# EAGLE library part TRANS_ULN2003AD (library X16_Backplane)
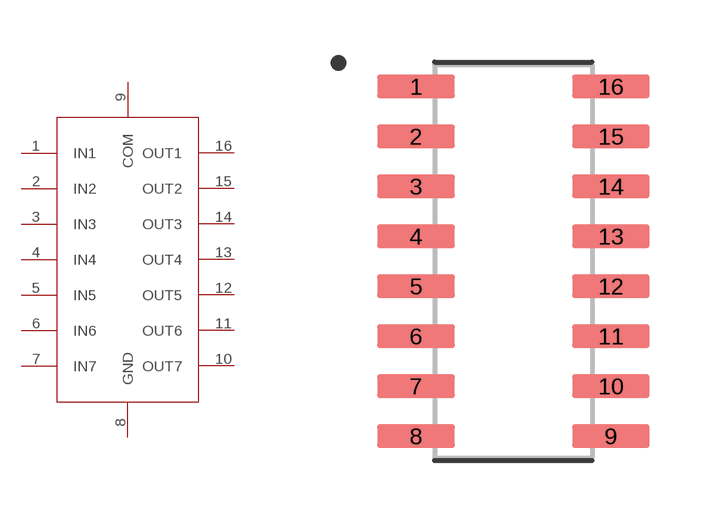
[diagram p5: symbol with the pads of 16-SOIC; footprint 16-SOIC]

Designator prefix U

## TRANS_ULN2003AD (A1_MIN: 0.25; A_MAX: 1.75; A_MIN: 1.75; A_NOM: 1.75; B_MAX: 0.51; B_MIN: 0.33; B_NOM: 0.42; D2_MAX: 0.0; D_MAX: 10.0; D_MIN: 9.8; D_NOM: 9.9; E1_MAX: 4.0; E1_MIN: 3.8; E1_NOM: 3.9; E2_MAX: 0.0; ENOM: 1.27; E_MAX: 6.2; E_MIN: 5.8; E_NOM: 6.0; L_MAX: 1.27; L_MIN: 0.38; L_NOM: 0.825; MANUFACTURER: Diodes Inc.; PIN_COUNT: 16.0; SNAPEDA_PACKAGE_ID: 27538; STANDARD: IPC 7351B)  [16-SOIC]
1  IN1
2  IN2
3  IN3
4  IN4
5  IN5
6  IN6
7  IN7
8  GND
9  COM
10  OUT7
11  OUT6
12  OUT5
13  OUT4
14  OUT3
15  OUT2
16  OUT1

## Footprint 16-SOIC (pad centres in mm)
smd 1.97 x 0.6: 1 -2.475,4.445; 2 -2.475,3.175; 3 -2.475,1.905; 4 -2.475,0.635; 5 -2.475,-0.635; 6 -2.475,-1.905; 7 -2.475,-3.175; 8 -2.475,-4.445; 9 2.475,-4.445; 10 2.475,-3.175; 11 2.475,-1.905; 12 2.475,-0.635; 13 2.475,0.635; 14 2.475,1.905; 15 2.475,3.175; 16 2.475,4.445